# EAGLE library part 74*04_V1 (library Nextion handheld controller)
Hex INVERTER
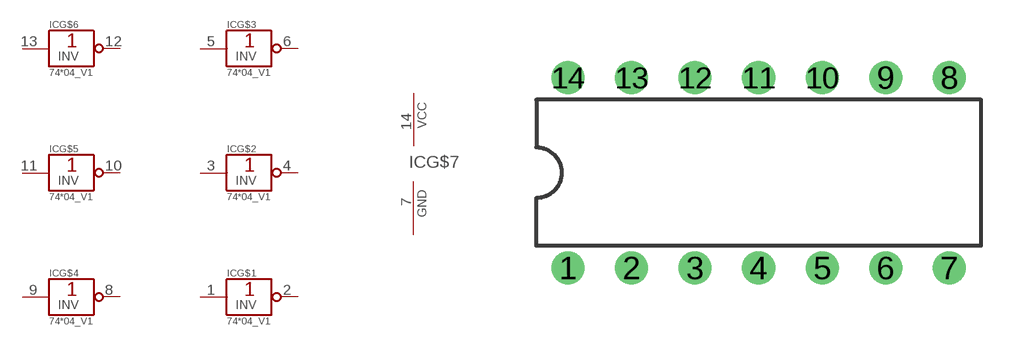
[diagram p8: symbol with the pads of DIL14; footprint DIL14]

Designator prefix IC; gates G$1=74*04 G$2=74*04 G$3=74*04 G$4=74*04 G$5=74*04 G$6=74*04 G$7=PWRN

## 7404_V1N  [DIL14]
1  G$1:A  in
2  G$1:Y  out
3  G$2:A  in
4  G$2:Y  out
5  G$3:A  in
6  G$3:Y  out
7  G$7:GND  pwr
8  G$4:Y  out
9  G$4:A  in
10  G$5:Y  out
11  G$5:A  in
12  G$6:Y  out
13  G$6:A  in
14  G$7:VCC  pwr

## Footprint DIL14 (pad centres in mm)
Dual In Line Package
drill 0.813: 1 -7.62,-3.81; 2 -5.08,-3.81; 3 -2.54,-3.81; 4 0,-3.81; 5 2.54,-3.81; 6 5.08,-3.81; 7 7.62,-3.81; 8 7.62,3.81; 9 5.08,3.81; 10 2.54,3.81; 11 0,3.81; 12 -2.54,3.81; 13 -5.08,3.81; 14 -7.62,3.81